# EAGLE library part 12402012E212A (library USB-C)
Check availability <https://pricing.snapeda.com/parts/12402012E212A/Amphenol/view-part?ref=eda>
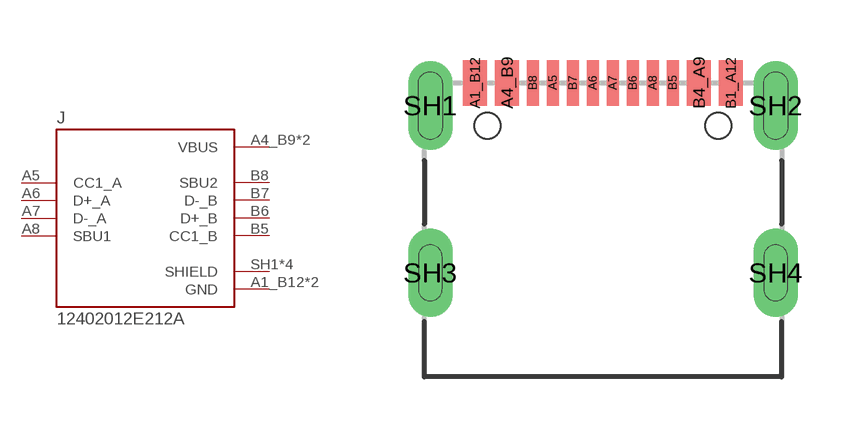
[diagram p0: symbol with the pads of AMPHENOL_12402012E212A; footprint AMPHENOL_12402012E212A]

Designator prefix J

## 12402012E212A (Availability: In Stock; Check_prices: https://www.snapeda.com/parts/12402012E212A/Amphenol/view-part/?ref=eda; Description: USB2.0, Type C, Top mount, CH 1.68mm, Dual Row SMT; MF: Amphenol; MP: 12402012E212A; Package: None; Price: None; Purchase-URL: https://www.snapeda.com/api/url_track_click_mouser/?unipart_id=12292287&manufacturer=Amphenol&part_name=12402012E212A&search_term= 12402012e212a; SnapEDA_Link: https://www.snapeda.com/parts/12402012E212A/Amphenol/view-part/?ref=snap)  [AMPHENOL_12402012E212A]
A1_B12  GND  pwr
A4_B9  VBUS  pwr
A5  CC1_A
A6  D+_A
A7  D-_A
A8  SBU1
B1_A12  GND  pwr
B4_A9  VBUS  pwr
B5  CC1_B
B6  D+_B
B7  D-_B
B8  SBU2
SH1  SHIELD  pas
SH2  SHIELD  pas
SH3  SHIELD  pas
SH4  SHIELD  pas

## Footprint AMPHENOL_12402012E212A (pad centres in mm)
smd 0.6 x 1.14: A1_B12 -3.2,4.75; A4_B9 -2.4,4.75; B1_A12 3.2,4.75; B4_A9 2.4,4.75
smd 0.3 x 1.14: A5 -1.25,4.75; A6 -0.25,4.75; A7 0.25,4.75; A8 1.25,4.75; B5 1.75,4.75; B6 0.75,4.75; B7 -0.75,4.75; B8 -1.75,4.75
drill 0.6 pad 1.05 long: SH1 -4.32,4.18; SH2 4.32,4.18
drill 0.6 pad 0.9 long: SH3 -4.32,0; SH4 4.32,0
hole 0.65 at 2.89,3.68
hole 0.65 at -2.89,3.68